# EAGLE library part PCB_CONNECTOR_MALE (library Group Electornics Library v80)
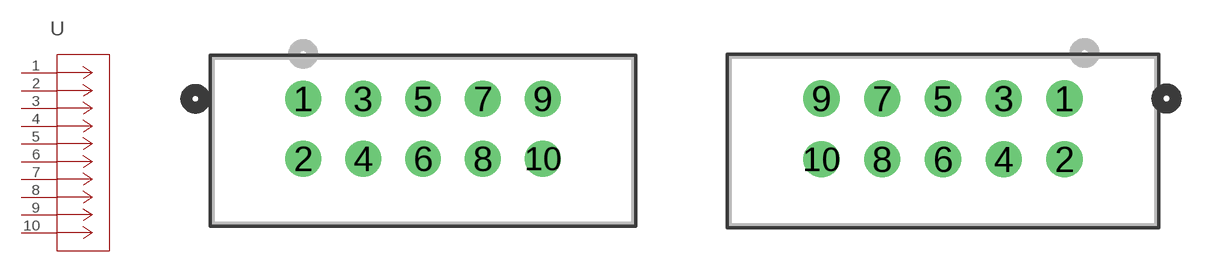
[diagram p0: symbol with the pads of SFH11-PBPC-D05-ST-BK; footprints SFH11-PBPC-D05-ST-BK, SFH11-PBPC-D05-ST-BK_BACK]

Designator prefix -

## PCB_CONNECTOR_MALEFORWARDS  [SFH11-PBPC-D05-ST-BK]
1  1  pas
2  2  pas
3  3  pas
4  4  pas
5  5  pas
6  6  pas
7  7  pas
8  8  pas
9  9  pas
10  10  pas

## PCB_CONNECTOR_MALEBACKWARDS  [SFH11-PBPC-D05-ST-BK_BACK]
Pads as for SFH11-PBPC-D05-ST-BK

## Footprint SFH11-PBPC-D05-ST-BK (pad centres in mm)
drill 1.016 pad 1.524: 1 0,0; 2 0,-2.54; 3 2.54,0; 4 2.54,-2.54; 5 5.08,0; 6 5.08,-2.54; 7 7.62,0; 8 7.62,-2.54; 9 10.16,0; 10 10.16,-2.54

## Footprint SFH11-PBPC-D05-ST-BK_BACK (pad centres in mm)
drill 1.016 pad 1.524: 1 10.16,0; 2 10.16,-2.54; 3 7.62,0; 4 7.62,-2.54; 5 5.08,0; 6 5.08,-2.54; 7 2.54,0; 8 2.54,-2.54; 9 0,0; 10 0,-2.54